# Altium schematic symbol library Battery_Charger_BQ24650.SCHLIB: 40 symbols (part 2 of 2)
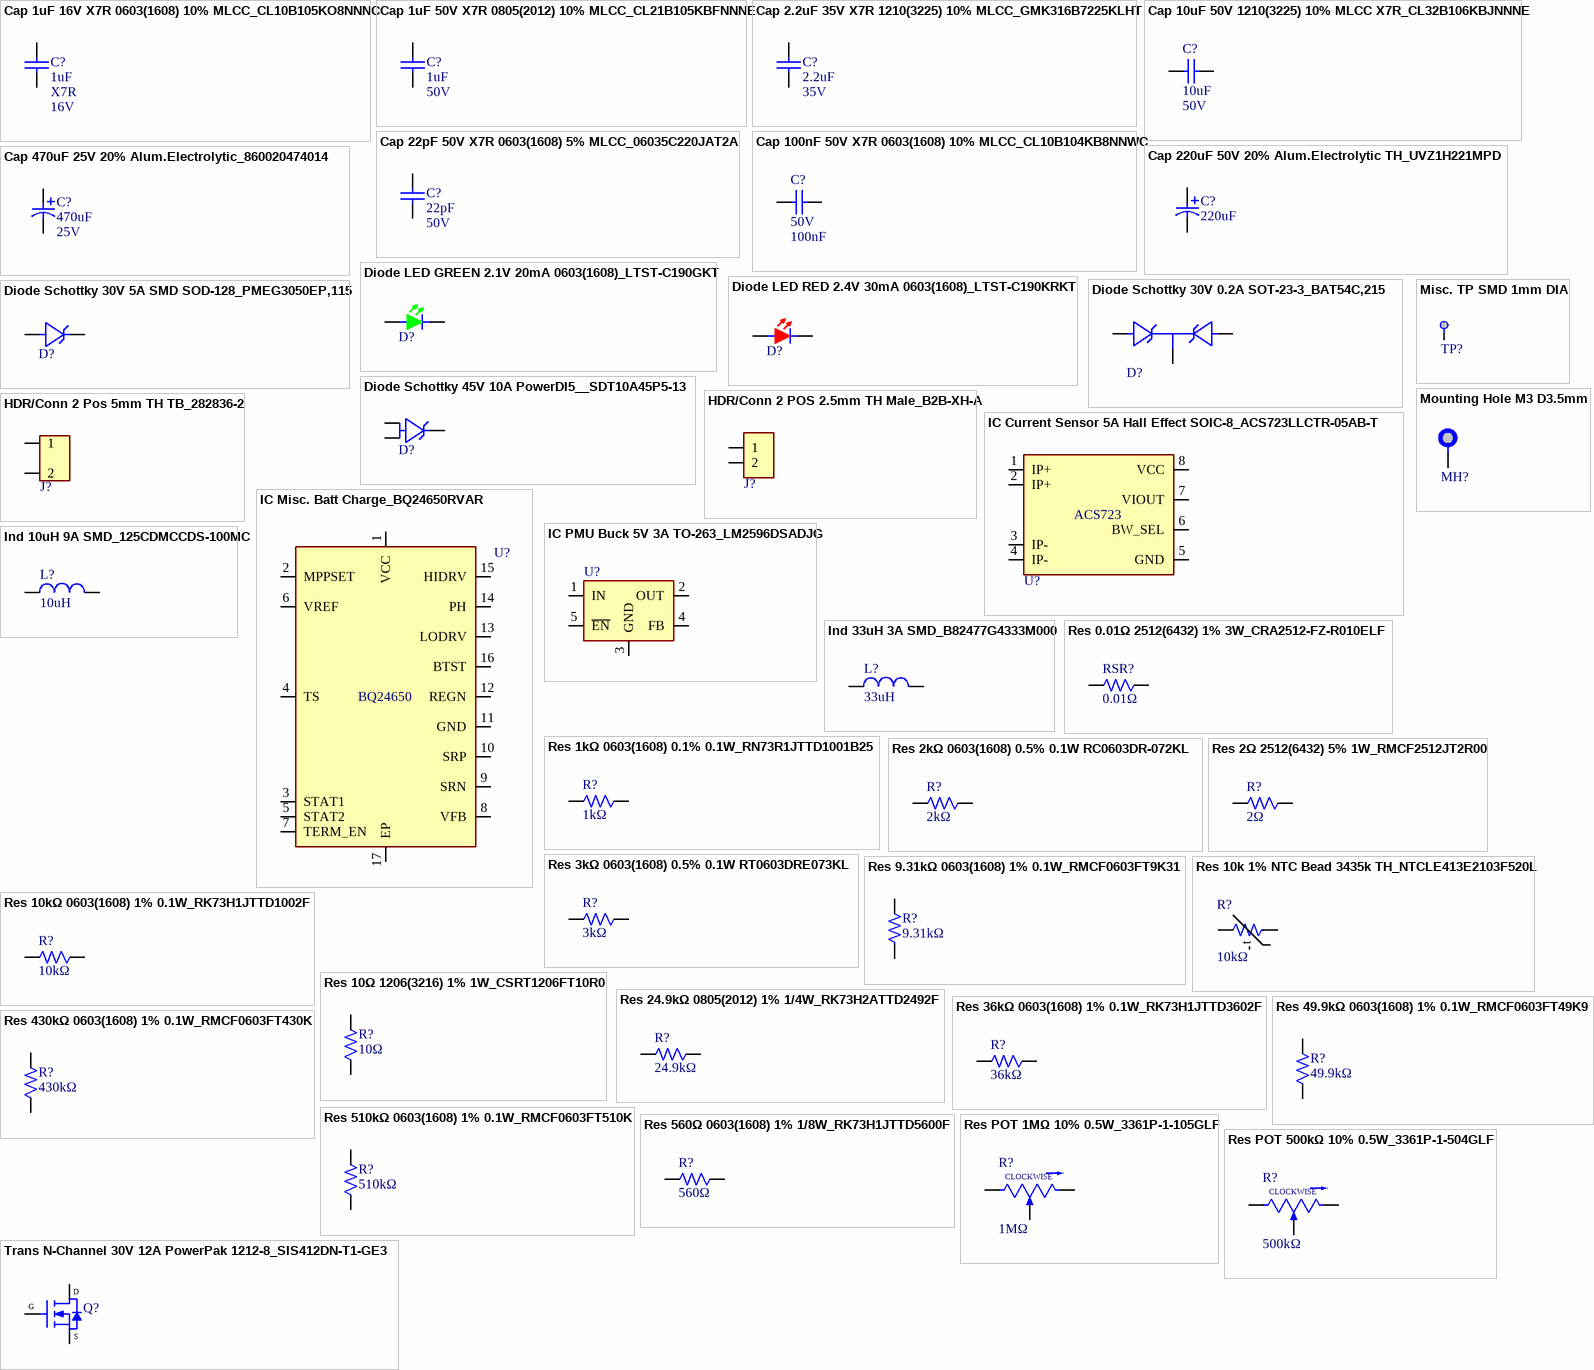
[diagram p1: symbols Cap 1uF 16V X7R 0603(1608) 10% MLCC_CL10B105KO8NNNC to Trans N-Channel 30V 12A PowerPak 1212-8_SIS412DN-T1-GE3]

## Res POT 1MΩ 10% 0.5W_3361P-1-105GLF
designator R?, comment value 1MΩ  (hidden comment: 3361P-1-105GLF)
Resistor Trimmer, Cermet, 1MΩ, ± 10%, 500 mW, 1 Turn, Single Turn, Surface Mount; Manufacturer: Bourns; Supplier: Digikey; Supplier Part Number: 3361P-1-105GLFCT-ND; Manufacturer Part Number: 3361P-1-105GLF; RoHS: Yes; Category: Variable Resistors and Potentiometers; Stock: 1435; Pricing: 1=1.37, 10=1.1, 25=1.008, 50=0.9434, 100=0.8826, 250=0.80784 (USD); ComponentLink1Description: DataSheet; ComponentLink1URL: https://www.bourns.com/docs/Product-Datasheets/3361.pdf; ComponentLink2Description: Digikey; ComponentLink2URL: https://www.digikey.com/en/products/detail/bourns-inc/3361P-1-105GLF/1817612; ComponentLink3Description: Mouser; ComponentLink3URL: https://eu.mouser.com/ProductDetail/Bourns/3361P-1-105GLF?qs=fHAReS3gvjLSMYSnFcSX8Q%3D%3D
footprint POT SMD_3361P-1-504GLF (3361P-1-504GLF)
pins: 1 CCW, 2 WIPER, 3 CW
text: CLOCKWISE

## Res POT 500kΩ 10% 0.5W_3361P-1-504GLF
designator R?, comment value 500kΩ  (hidden comment: 3361P-1-504GLF)
SMD Single-Turn Trimmer Potentiometers 1/4 SQ 500KOHMS 10% 0.5WATTS; Manufacturer: Bourns; Manufacturer Part Number: 3361P-1-504GLF; RoHS: Yes; ComponentLink1Description: DataSheet; ComponentLink1URL: https://www.bourns.com/docs/Product-Datasheets/3361.pdf; ComponentLink2Description: Digikey; ComponentLink2URL: https://www.digikey.com/en/products/detail/bourns-inc/3361P-1-504GLF/1817611; ComponentLink3Description: Mouser; ComponentLink3URL: https://eu.mouser.com/ProductDetail/Bourns/3361P-1-504GLF?qs=fqIB%2FsSTfTaKxcvNNIdl2Q%3D%3D; Supplier: Digikey; Supplier Part Number: 3361P-1-504GLFCT-ND; Category: Variable Resistors and Potentiometers; Stock: 1099; Pricing: 1=1.37, 10=1.1, 25=1.008, 50=0.9434, 100=0.8826, 250=0.80784 (USD)
footprint POT SMD_3361P-1-504GLF (3361P-1-504GLF)
pins: 1 CCW, 2 WIPER, 3 CW
text: CLOCKWISE

## Trans N-Channel 30V 12A PowerPak 1212-8_SIS412DN-T1-GE3
designator Q?, comment SIS412DN-T1-GE3  (value not drawn)
SiS412DN Series N-Channel 30 V 24 mOhms SMT Power Mosfet - PowerPAK-1212-8; Manufacturer: Vishay Siliconix; Supplier 1: Digikey; Manufacturer Part Number: SIS412DN-T1-GE3; RoHS: Yes; Category: MOSFETs; Stock 1: 40457; Pricing 1: 1=0.73, 10=0.491, 100=0.3361, 500=0.26568, 1000=0.24245 (USD); Supplier 2: Mouser; Stock 2: 21775; Pricing 2: 1=0.64, 10=0.459, 50=0.459, 100=0.332, 1000=0.239, 10000=0.215 (USD); Supplier Part Number 1: SIS412DN-T1-GE3CT-ND; Supplier Part Number 2: 781-SIS412DN-T1-GE3; ComponentLink1Description: DataSheet; ComponentLink1URL: https://www.vishay.com/docs/69006/sis412dn_new.pdf; ComponentLink2Description: Digikey; ComponentLink2URL: https://www.digikey.com/en/products/detail/vishay-siliconix/SIS412DN-T1-GE3/2441823?s=N4IgTCBcDaIMoEk4BYCMYAiA5AtAFVRwHEBRAZgGE8csMQBdAXyA; ComponentLink3Description: Mouser; ComponentLink3URL: https://eu.mouser.com/ProductDetail/Vishay-Semiconductors/SIS412DN-T1-GE3?qs=cPOO8qjhL6NqDrBget0Fyg%3D%3D
footprint Trans POWERPAK1212-8_SIS412DN-T1-GE3 (PowerPAK® 1212-8)
pins: 1 S, 2 S, 3 S, 4 G, 5 D, 6 D, 7 D, 8 D, 9 D